# Altium footprint library Footprints.PcbLib: 1 footprints
Each footprint in its own frame and in the unit in brackets; x right, y up, seen from the top. Pads: shape width x height; smd on the part's side, far side on the other; paste and mask are expansions set on the pad; w line width, h text height; cw(c..) or ccw(c..) is an arc to the next point about the centre after c.
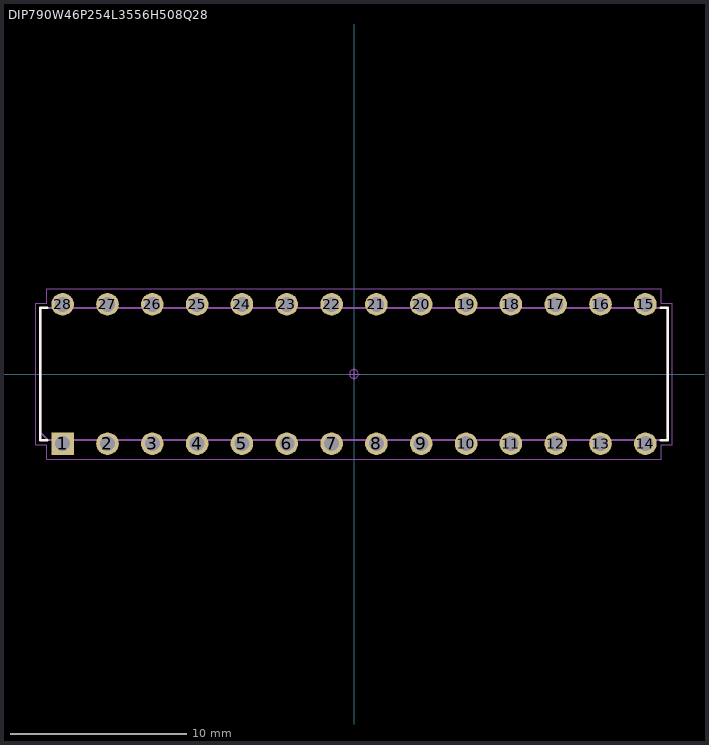
[diagram p0: the footprint, top view; thin cyan lines are the x and y axes]

## DIP790W46P254L3556H508Q28 [mm] "DIP, 7.90 mm lead span, 2.54 mm pitch; 28 pin, 35.56 mm L X 7.50 mm W X 5.08 mm H body"
height 5.08
pads (28):
  rect 1.28x1.28 / inner round 1.28 / far side rect 1.28x1.28 hole 0.85 paste-1.28: 1(-16.51,-3.95)
  round 1.28 hole 0.85 paste-1.28: 2(-13.97,-3.95) 3(-11.43,-3.95) 4(-8.89,-3.95) 5(-6.35,-3.95) 6(-3.81,-3.95) 7(-1.27,-3.95) 8(1.27,-3.95) 9(3.81,-3.95) 10(6.35,-3.95) 11(8.89,-3.95) 12(11.43,-3.95) 13(13.97,-3.95) 14(16.51,-3.95) 15(16.51,3.95) 16(13.97,3.95) 17(11.43,3.95) 18(8.89,3.95) 19(6.35,3.95) 20(3.81,3.95) 21(1.27,3.95) 22(-1.27,3.95) 23(-3.81,3.95) 24(-6.35,3.95) 25(-8.89,3.95) 26(-11.43,3.95) 27(-13.97,3.95) 28(-16.51,3.95)
Top Overlay:
  lines w0.15: -17.375,-3.75 -17.78,-3.75 -17.78,3.75 -17.375,3.75 ; 17.375,-3.75 17.78,-3.75 17.78,3.75 17.375,3.75
Mechanical 3:
  lines w0.12: -17.78,-3.302 -17.332,-3.75 17.78,-3.75 17.78,3.75 -17.78,3.75 -17.78,-3.302
Mechanical 5:
  lines w0.025: -16.79,-4.14 -16.23,-4.14 -16.23,-3.76 -16.79,-3.76 -16.79,-4.14 ; -16.79,3.76 -16.23,3.76 -16.23,4.14 -16.79,4.14 -16.79,3.76 ; -14.25,-4.14 -13.69,-4.14 -13.69,-3.76 -14.25,-3.76 -14.25,-4.14 ; -14.25,3.76 -13.69,3.76 -13.69,4.14 -14.25,4.14 -14.25,3.76 ; -11.71,-4.14 -11.15,-4.14 -11.15,-3.76 -11.71,-3.76 -11.71,-4.14 ; -11.71,3.76 -11.15,3.76 -11.15,4.14 -11.71,4.14 -11.71,3.76 ; -9.17,-4.14 -8.61,-4.14 -8.61,-3.76 -9.17,-3.76 -9.17,-4.14 ; -9.17,3.76 -8.61,3.76 -8.61,4.14 -9.17,4.14 -9.17,3.76 ; -6.63,-4.14 -6.07,-4.14 -6.07,-3.76 -6.63,-3.76 -6.63,-4.14 ; -6.63,3.76 -6.07,3.76 -6.07,4.14 -6.63,4.14 -6.63,3.76 ; -4.09,-4.14 -3.53,-4.14 -3.53,-3.76 -4.09,-3.76 -4.09,-4.14 ; -4.09,3.76 -3.53,3.76 -3.53,4.14 -4.09,4.14 -4.09,3.76 ; -1.55,-4.14 -0.99,-4.14 -0.99,-3.76 -1.55,-3.76 -1.55,-4.14 ; -1.55,3.76 -0.99,3.76 -0.99,4.14 -1.55,4.14 -1.55,3.76 ; 0.99,-4.14 1.55,-4.14 1.55,-3.76 0.99,-3.76 0.99,-4.14 ; 0.99,3.76 1.55,3.76 1.55,4.14 0.99,4.14 0.99,3.76 ; 3.53,-4.14 4.09,-4.14 4.09,-3.76 3.53,-3.76 3.53,-4.14 ; 3.53,3.76 4.09,3.76 4.09,4.14 3.53,4.14 3.53,3.76 ; 6.07,-4.14 6.63,-4.14 6.63,-3.76 6.07,-3.76 6.07,-4.14 ; 6.07,3.76 6.63,3.76 6.63,4.14 6.07,4.14 6.07,3.76 ; 8.61,-4.14 9.17,-4.14 9.17,-3.76 8.61,-3.76 8.61,-4.14 ; 8.61,3.76 9.17,3.76 9.17,4.14 8.61,4.14 8.61,3.76 ; 11.15,-4.14 11.71,-4.14 11.71,-3.76 11.15,-3.76 11.15,-4.14 ; 11.15,3.76 11.71,3.76 11.71,4.14 11.15,4.14 11.15,3.76 ; 13.69,-4.14 14.25,-4.14 14.25,-3.76 13.69,-3.76 13.69,-4.14 ; 13.69,3.76 14.25,3.76 14.25,4.14 13.69,4.14 13.69,3.76 ; 16.23,-4.14 16.79,-4.14 16.79,-3.76 16.23,-3.76 16.23,-4.14 ; 16.23,3.76 16.79,3.76 16.79,4.14 16.23,4.14 16.23,3.76
Mechanical 7:
  circle w0.05: c0,0 r0.25
  lines w0.025: -17.78,-3.75 -17.78,3.75 17.78,3.75 17.78,-3.75 -17.78,-3.75
  lines w0.05: -0.35,0 0.35,0 ; 0,-0.35 0,0.35 ; -18.03,-4 -18.03,4 -17.4,4 -17.4,4.84 17.4,4.84 17.4,4 18.03,4 18.03,-4 17.4,-4 17.4,-4.84 -17.4,-4.84 -17.4,-4 -18.03,-4
Mechanical 9:
  text ".Designator" at -7.874,6.477 h0.76
3D body "DIP790W46P254L3556H508Q28.STEP": height 5.08, standoff -2, extent -17.78,-4.095 17.78,4.095